# Altium footprint library 杂项库.PcbLib: 585 footprints (part 21 of 37)
Each footprint in its own frame and in the unit in brackets; x right, y up, seen from the top. Pads: shape width x height; smd on the part's side, far side on the other; paste and mask are expansions set on the pad; w line width, h text height; cw(c..) or ccw(c..) is an arc to the next point about the centre after c.
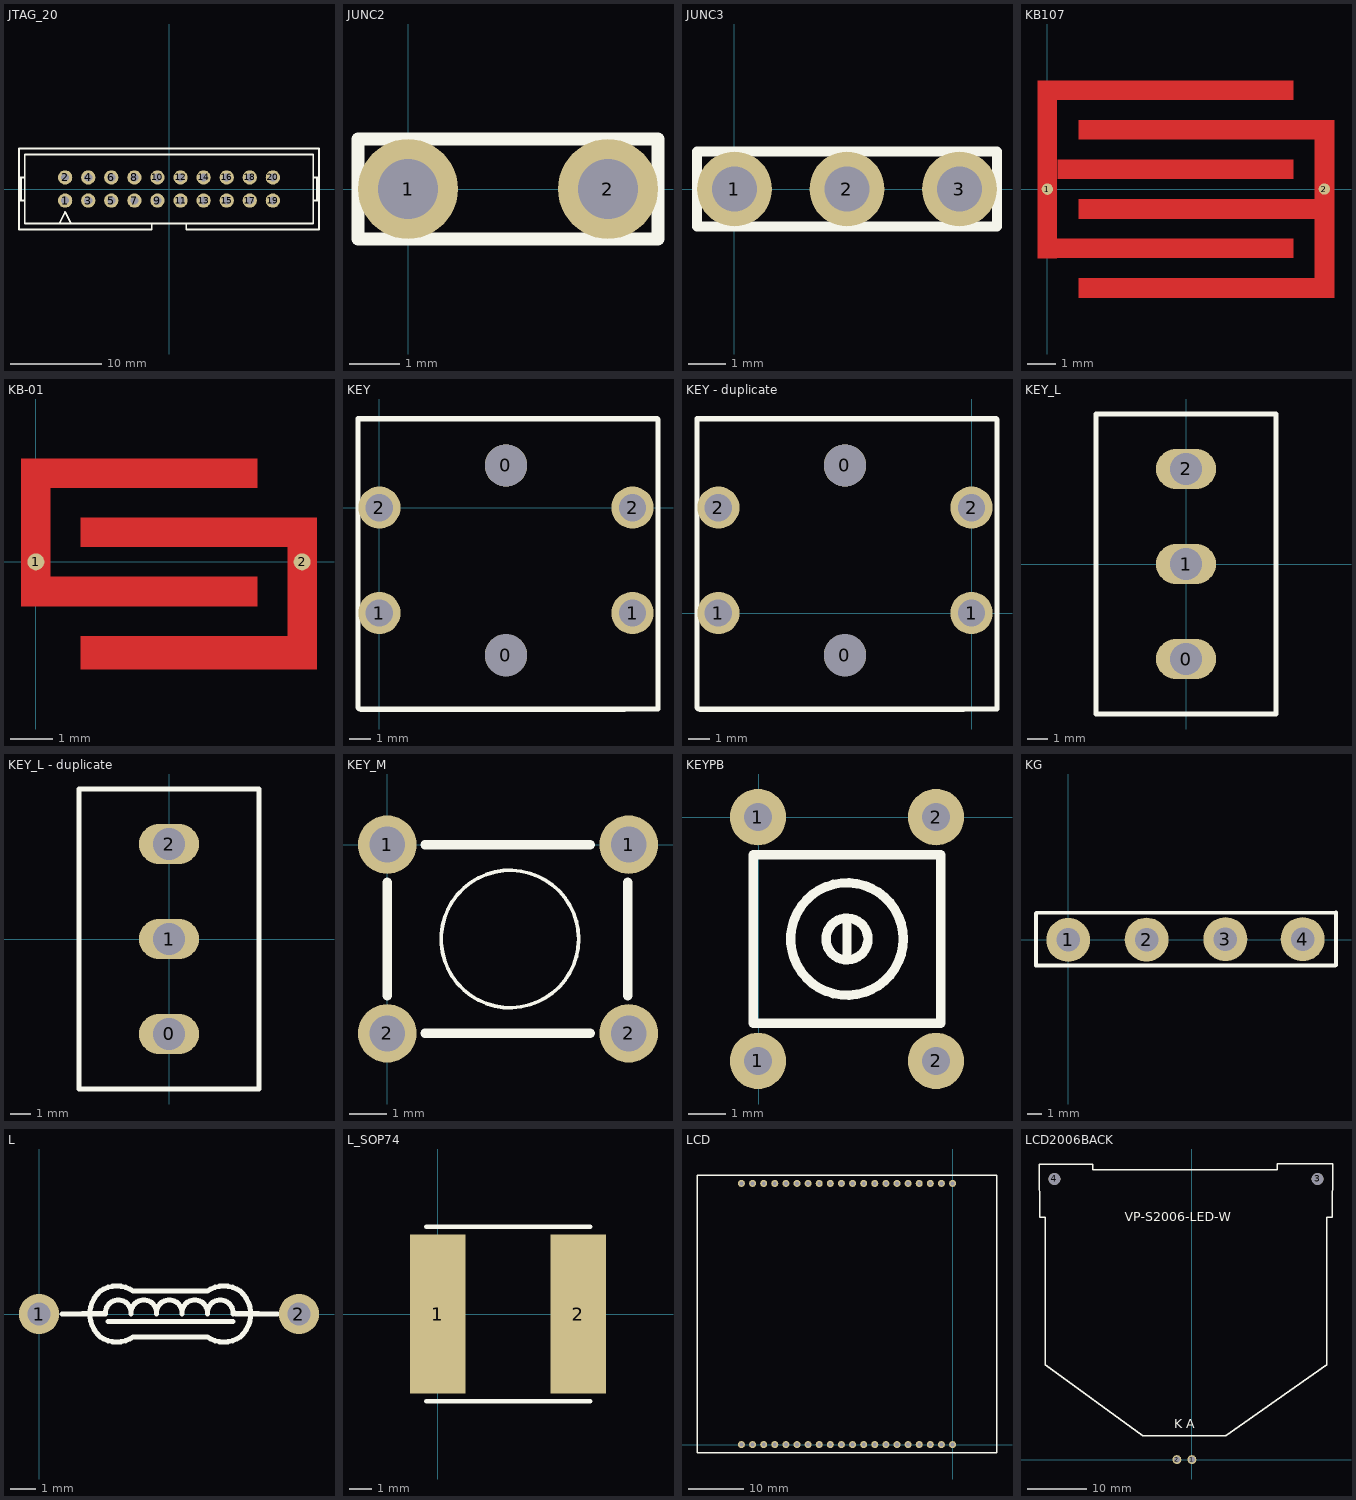
[diagram p20: the footprints below, top view; thin cyan lines are the x and y axes]

## JTAG_20 [mil]
pads (20):
  round 62 hole 35: 1(-450,-50) 2(-450,50) 3(-350,-50) 4(-350,50) 5(-250,-50) 6(-250,50) 7(-150,-50) 8(-150,50) 9(-50,-50) 10(-50,50) 11(50,-50) 12(50,50) 13(150,-50) 14(150,50) 15(250,-50) 16(250,50) 17(350,-50) 18(350,50) 19(450,-50) 20(450,50)
Top Overlay:
  lines w8: -650,-50 -625,-50 ; -650,50 -625,50 ; -641.67,-50 -641.67,50 ; -475,-150 -450,-100 -425,-150 ; -339.57,-175 -75,-175 -75,-150 ; -325,-175 -650,-175 -650,175 650,175 650,-175 325,-175 75,-175 75,-150 ; 625,-50 650,-50 ; 625,50 650,50 ; 641.67,-50 641.67,50 ; -75,-150 75,-150 ; -75,-150 -625,-150 -625,150 625,150 625,-150 75,-150

## JUNC2 [mm]
pads (2):
  round 2 hole 1.2: 1(0,0) 2(4,0)
Top Overlay:
  lines w0.254: -1,-1 -1,1 5,1 5,-1 -1,-1

## JUNC3 [mm]
pads (3):
  round 2 hole 1.2: 1(0,0) 2(3,0) 3(6,0)
Top Overlay:
  lines w0.254: -1,-1 7,-1 7,1 -1,1 -1,-1

## KB107 [mm]
pads (2):
  round 0.4 all layers, no hole: 1(0,0) 2(9.798,0.003)
Top Layer:
  rectangle: -0.34,-2.45 0.35,3.85
  rectangle: -0.34,3.16 8.7,3.85
  rectangle: 0.36,0.35 8.7,1.05
  rectangle: 0.33,-2.44 8.7,-1.74
  rectangle: 1.11,1.76 9.75,2.45
  rectangle: 1.11,-1.05 9.75,-0.35
  rectangle: 1.11,-3.85 10.16,-3.15
  rectangle: 9.45,-3.55 10.15,2.45
Top Solder:
  rectangle: -0.4,-3.9 10.21,3.91

## KB-01 [mm]
pads (2):
  round 0.4 all layers, no hole: 1(0,0) 2(6.3,0)
Top Layer:
  rectangle: -0.35,1.75 5.25,2.45
  rectangle: -0.35,-0.38 0.35,2.45
  rectangle: -0.35,-1.05 5.25,-0.35
  rectangle: 1.05,0.35 6.65,1.05
  rectangle: 5.95,-1.86 6.65,1.05
  rectangle: 1.05,-2.55 6.65,-1.75
Top Solder:
  rectangle: -0.4,-2.6 6.7,2.5

## KEY [mm]
pads (6):
  round 2 hole 2: 0(6,-7) 0(6,2)
  round 2 hole 1.3: 1(0,-5) 1(12,-5) 2(0,0) 2(12,0)
Top Overlay:
  lines w0.254: -0.94,-9.55 -1.016,-9.474 -1.016,4.216 12.7,4.216 13.157,4.216 13.208,4.166 13.208,-9.55 11.176,-9.55 ; -0.876,-9.567 11.621,-9.567

## KEY - duplicate [mm]
pads (6):
  round 2 hole 2: 0(-6,-2) 0(-6,7)
  round 2 hole 1.3: 1(-12,0) 1(0,0) 2(-12,5) 2(0,5)
Top Overlay:
  lines w0.254: -12.94,-4.55 -13.016,-4.474 -13.016,9.216 0.7,9.216 1.157,9.216 1.208,9.166 1.208,-4.55 -0.824,-4.55 ; -12.876,-4.567 -0.379,-4.567

## KEY_L [mm]
pads (3):
  oval 3x2 hole 1.6: 0(0,-4.75) 1(0,0) 2(0,4.75)
Top Overlay:
  lines w0.254: -4.5,-7.5 4.5,-7.5 4.5,7.5 -4.5,7.5 -4.5,0 -4.5,-7.5

## KEY_L - duplicate [mm]
pads (3):
  oval 3x2 hole 1.6: 0(0,-4.75) 1(0,0) 2(0,4.75)
Top Overlay:
  lines w0.254: -4.5,-7.5 -4.5,0 -4.5,7.5 4.5,7.5 4.5,-7.5 -4.5,-7.5

## KEY_M [mil]
pads (4):
  round 62 hole 38: 1(0,0) 1(255.91,0) 2(0,-200) 2(255.91,-200)
Top Overlay:
  circle w3.94: c130,-100 r72.83
  lines w10: -0.03,-160 -0.03,-40 ; 39.97,-200 215,-200 ; 39.97,0 215,0 ; 255,-160 255,-40

## KEYPB [mil]
pads (4):
  round 60 hole 30: 1(-1,-260) 1(-1,0) 2(189,-260) 2(189,0)
Top Overlay:
  circle w10: c94,-130 r22.36
  circle w10: c94,-130 r60
  lines w10: 94,-150 94,-110 ; -6,-220 194,-220 194,-40 -6,-40 -6,-220

## KG [mm]
pads (4):
  round 3 hole 1.6: 1(0,0) 2(5.349,0.025) 3(10.722,0.05) 4(15.996,0.05)
Top Overlay:
  lines w0.254: 18.22,-1.75 -2.199,-1.75 -2.199,1.825 -2.174,1.85 18.22,1.85 ; 18.27,-1.725 18.27,1.875

## L [mil]
pads (2):
  round 62 hole 36: 1(0,0) 2(401.57,0)
Top Overlay:
  lines w7.87: 35.75,0 75.75,0 ; 67.32,0.39 102.76,0.39 cw(c122.44,1.97) 142.13,0.39 cw(c161.81,1.97) 181.5,0.39 cw(c201.18,1.97) 220.87,0.39 cw(c240.55,1.97) 260.24,0.39 cw(c279.92,1.97) 299.61,0.39 ; 106.69,-11.42 299.61,-11.42 ; 303.54,0.39 338.98,0.39 ; 328.19,0 368.19,0 ; 94.49,-35.43 ccw(c120.08,1.94) 145.67,-35.43 259.84,-35.43 ccw(c285.43,1.94) 311.02,-35.43 ccw(c279.56,0) 311.02,35.43 ccw(c285.43,-1.97) 259.84,35.43 145.67,35.43 ccw(c120.08,-1.97) 94.49,35.43 ccw(c125.98,0) 94.49,-35.43

## L_SOP74 [mm]
pads (2):
  rect 2.5x7.2 smd: 1(0,0) 2(6.35,0)
Top Overlay:
  lines w0.203: -0.508,-3.937 6.892,-3.937 ; -0.508,3.937 6.892,3.937

## LCD [mil]
pads (40):
  round 50 hole 27: 1(0,0) 2(-78.74,0) 3(-157.48,0) 4(-236.22,0) 5(-314.96,0) 6(-393.7,0) 7(-472.44,0) 8(-551.18,0) 9(-629.92,0) 10(-708.66,0) 11(-787.4,0) 12(-866.14,0) 13(-944.88,0) 14(-1023.62,0) 15(-1102.36,0) 16(-1181.1,0) 17(-1259.84,0) 18(-1338.58,0) 19(-1417.32,0) 20(-1496.06,0) 21(-1496.06,1850.39) 22(-1417.33,1850.39) 23(-1338.59,1850.39) 24(-1259.84,1850.39) 25(-1181.1,1850.39) 26(-1102.36,1850.39) 27(-1023.62,1850.39) 28(-944.88,1850.39) 29(-866.14,1850.39) 30(-787.4,1850.39) 31(-708.66,1850.39) 32(-629.92,1850.39) 33(-551.18,1850.39) 34(-472.44,1850.39) 35(-393.7,1850.39) 36(-314.96,1850.39) 37(-236.22,1850.39) 38(-157.48,1850.39) 39(-78.74,1850.39) 40(0,1850.39)
Top Overlay:
  lines w10: -1811.02,-59.05 -1811.02,1909.45 314.96,1909.45 314.96,-59.05 -1811.02,-59.05

## LCD2006BACK [mm]
pads (4):
  round 1.5 hole 1.016: 1(0,0) 2(-2.54,0)
  round 2 hole 2: 3(21.285,47.523) 4(-23.292,47.523)
Top Overlay:
  lines w0.254: -25.832,50.038 -16.764,50.038 -16.764,49.073 14.427,49.073 14.427,50.063 23.825,50.063 23.8,41.072 22.86,41.072 22.86,16.078 5.74,4.039 -8.331,4.039 -24.867,16.078 -24.867,41.046 -25.806,41.046 -25.832,50.038
  text "K A" at -3.023,5.309 h1.52
  text "VP-S2006-LED-W" at -11.405,40.386 h1.52